# Altium footprint library PCB1.PcbLib: 103 footprints (part 4 of 7)
Each footprint in its own frame and in the unit in brackets; x right, y up, seen from the top. Pads: shape width x height; smd on the part's side, far side on the other; paste and mask are expansions set on the pad; w line width, h text height; cw(c..) or ccw(c..) is an arc to the next point about the centre after c.
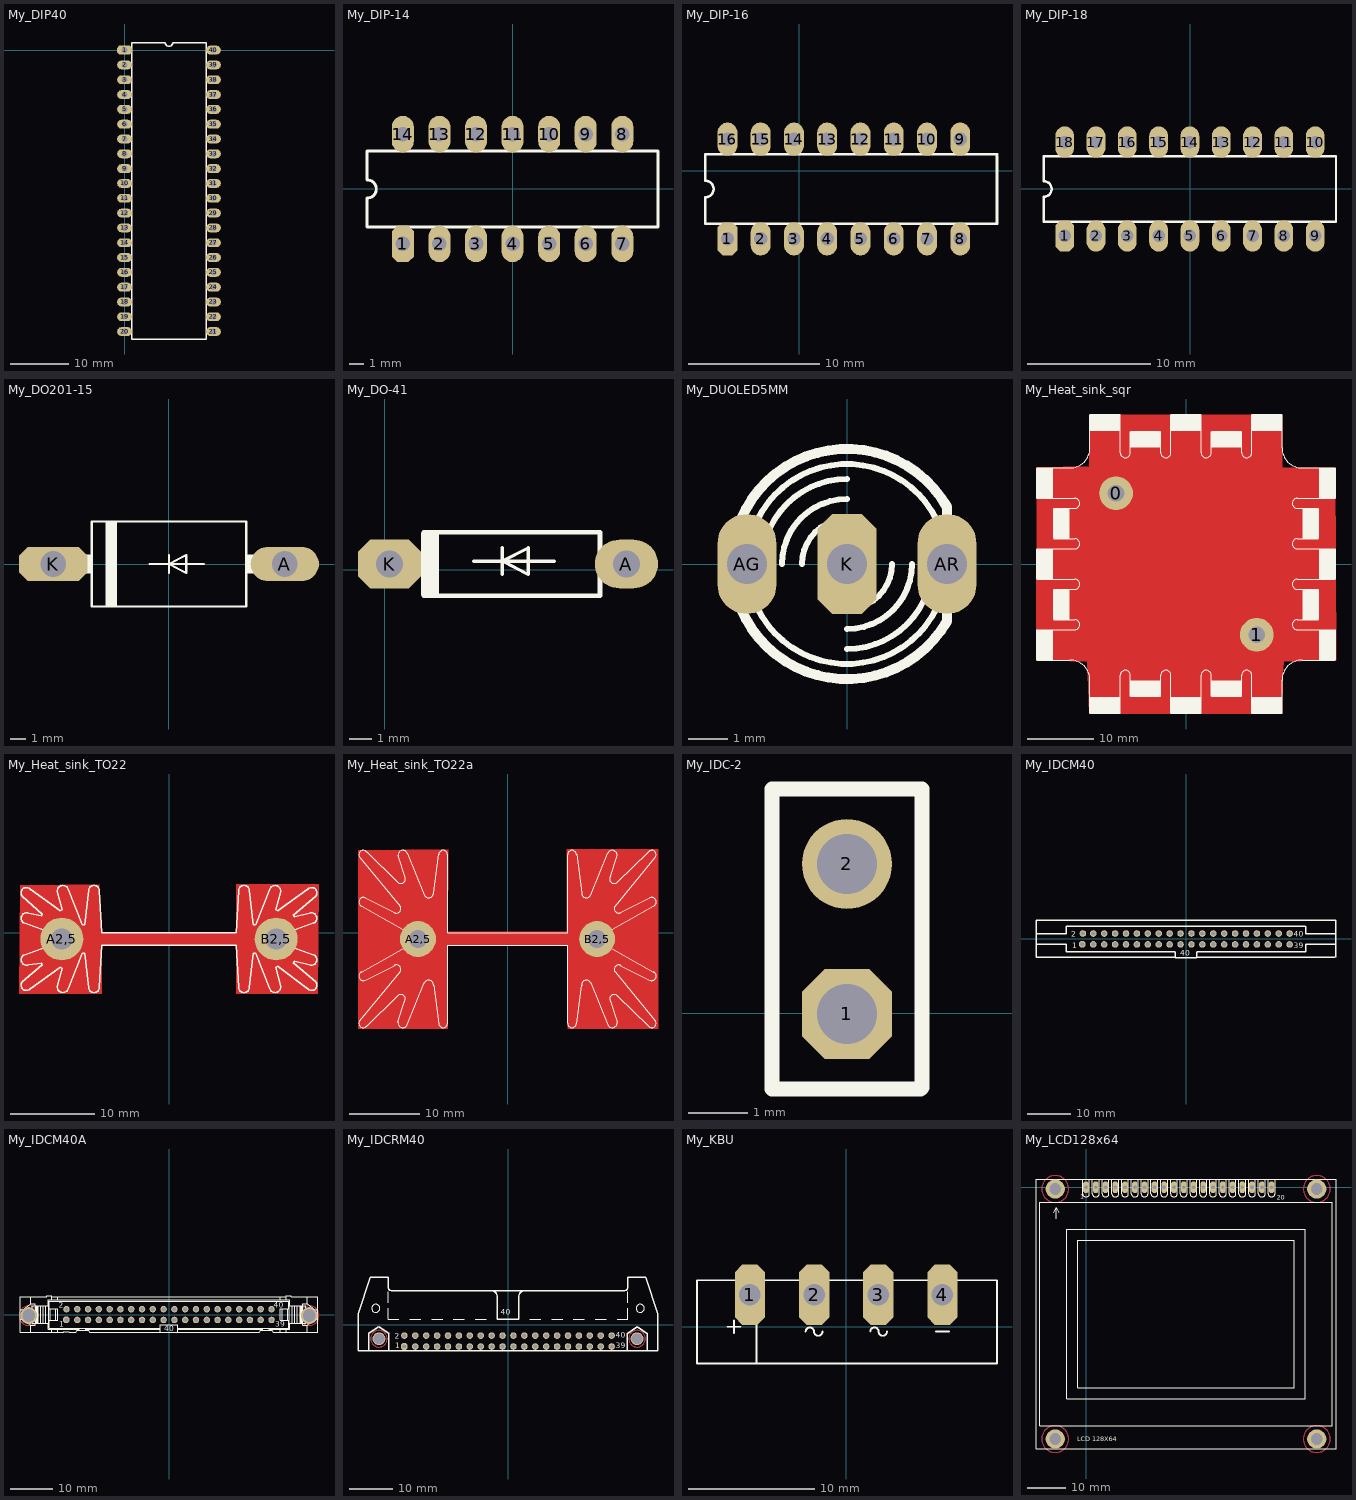
[diagram p3: the footprints below, top view; thin cyan lines are the x and y axes]

## My_DIP40 [mil]
pads (40):
  oct 100x60 hole 40: 1(-0.5,-0.5)
  oval 100x60 hole 40: 2(-0.5,-100.5) 3(-0.5,-200.5) 4(-0.5,-300.5) 5(-0.5,-400.5) 6(-0.5,-500.5) 7(-0.5,-600.5) 8(-0.5,-700.5) 9(-0.5,-800.5) 10(-0.5,-900.5) 11(-0.5,-1000.5) 12(-0.5,-1100.5) 13(-0.5,-1200.5) 14(-0.5,-1300.5) 15(-0.5,-1400.5) 16(-0.5,-1500.5) 17(-0.5,-1600.5) 18(-0.5,-1700.5) 19(-0.5,-1800.5) 20(-0.5,-1900.5) 21(599.5,-1900.5) 22(599.5,-1800.5) 23(599.5,-1700.5) 24(599.5,-1600.5) 25(599.5,-1500.5) 26(599.5,-1400.5) 27(599.5,-1300.5) 28(599.5,-1200.5) 29(599.5,-1100.5) 30(599.5,-1000.5) 31(599.5,-900.5) 32(599.5,-800.5) 33(599.5,-700.5) 34(599.5,-600.5) 35(599.5,-500.5) 36(599.5,-400.5) 37(599.5,-300.5) 38(599.5,-200.5) 39(599.5,-100.5) 40(599.5,-0.5)
Top Overlay:
  lines w10: 49.5,-1950.5 549.5,-1950.5 549.5,49.5 324.5,49.5 cw(c299.5,49.5) 274.5,49.5 49.5,49.5 49.5,-1950.5

## My_DIP-14 [mil]
pads (14):
  oct 60x100 hole 40: 1(-300.5,-150.5)
  oval 60x100 hole 40: 2(-200.5,-150.5) 3(-100.5,-150.5) 4(-0.5,-150.5) 5(99.5,-150.5) 6(199.5,-150.5) 7(299.5,-150.5) 8(299.5,149.5) 9(199.5,149.5) 10(99.5,149.5) 11(-0.5,149.5) 12(-100.5,149.5) 13(-200.5,149.5) 14(-300.5,149.5)
Top Overlay:
  lines w7.87: -398.14,-104.83 397.14,-104.83 397.14,103.83 -398.14,103.83 -398.14,24.5 cw(c-398.14,-0.5) -398.14,-25.5 -398.14,-104.83

## My_DIP-16 [mil]
height 20
pads (16):
  oct 60x100 hole 40: 1(-215.5,-205.5)
  oval 60x100 hole 40: 2(-115.5,-205.5) 3(-15.5,-205.5) 4(84.5,-205.5) 5(184.5,-205.5) 6(284.5,-205.5) 7(384.5,-205.5) 8(484.5,-205.5) 9(484.5,94.5) 10(384.5,94.5) 11(284.5,94.5) 12(184.5,94.5) 13(84.5,94.5) 14(-15.5,94.5) 15(-115.5,94.5) 16(-215.5,94.5)
Top Overlay:
  lines w7.87: -282.04,-160 595,-160 595,43.83 ; -282.04,-159.83 -282.04,-80.5 ccw(c-282.04,-55.5) -282.04,-30.5 -282.04,48.83 595,48.83

## My_DIP-18 [mil]
pads (18):
  oct 60x100 hole 40: 1(-400.5,-150.5)
  oval 60x100 hole 40: 2(-300.5,-150.5) 3(-200.5,-150.5) 4(-100.5,-150.5) 5(-0.5,-150.5) 6(99.5,-150.5) 7(199.5,-150.5) 8(299.5,-150.5) 9(399.5,-150.5) 10(399.5,149.5) 11(299.5,149.5) 12(199.5,149.5) 13(99.5,149.5) 14(-0.5,149.5) 15(-100.5,149.5) 16(-200.5,149.5) 17(-300.5,149.5) 18(-400.5,149.5)
Top Overlay:
  lines w7.87: -467.04,-104.83 466.04,-104.83 466.04,103.83 -467.04,103.83 -467.04,24.5 cw(c-467.04,-0.5) -467.04,-25.5 -467.04,-104.83

## My_DO201-15 [mm]
pads (2):
  oval 4.496x2.248 hole 1.7: A(7.625,0.004)
  oct 4.496x2.248 hole 1.7: K(-7.615,0.004)
Top Overlay:
  rectangle: -4.186,-2.79 -3.424,2.798
  rectangle: -5.964,-0.631 -5.075,0.639
  rectangle: 5.085,-0.631 5.974,0.639
  lines w0.152: -1.265,0.004 0.005,0.004 ; 0.005,-0.58 0.005,0.004 ; 0.005,0.588 0.005,0.004 ; 2.291,0.004 0.005,0.004 ; 0.005,0.004 1.148,0.588 1.148,-0.58 0.005,0.004 ; -5.075,-2.79 -5.075,2.798 5.085,2.798 5.085,-2.79 -5.075,-2.79
  lines w1.27: -7.615,0.004 -6.218,0.004 ; 6.228,0.004 7.625,0.004

## My_DO-41 [mil]
pads (2):
  oval 110x85 hole 47.24: A(420.71,10)
  oct 110x85 hole 47.24: K(8.9,10)
Top Overlay:
  region: 95,65.12 63.5,65.12 63.5,-45.12 95,-45.12
  lines w6: 155,15 205,15 ; 205,-8 205,15 ; 205,38 205,15 ; 295,15 205,15 ; 205,15 250,-8 250,38 205,15
  lines w7.87: 68.31,-45.12 374.8,-45.12 374.8,65.12 68.31,65.12

## My_DUOLED5MM [mil]
pads (3):
  oval 59x100 hole 40: AG(-100,0) AR(100,0)
  oct 59x100 hole 40: K(0,0)
Top Overlay:
  lines w6: -85,0 cw(c0,0) 0,85 ; -65,0 cw(c0,0) 0,65 ; -45,0 cw(c0,0) 0,45 ; 0,-85 ccw(c0,0) 85,0 ; 0,-65 ccw(c0,0) 65,0 ; 0,-45 ccw(c0,0) 45,0 ; -94,-34 cw(c0,0) -94,34 cw(c0,0) 94,34 cw(c0,0) 94,-34 cw(c0,0) -94,-34
  lines w10: -110,34 ccw(c0,0) -110,-34 ccw(c0,0) 100.03,-57.01 ; -109.97,33.99 cw(c0,0) 100,57 100,35 ; 100,-57 100,-35 100,37

## My_Heat_sink_sqr [mil]
pads (2):
  round 200 hole 100: 0(-415,420) 1(420,-420)
Top Layer:
  region: 885,570 570,575 570,885 -570,885 -575,580 -885,575 -890,-570 -585,-580 -575,-890 570,-890 575,-655 580,-580 890,-570
Top Overlay:
  circle w6: c-420,420 r85
  circle w6: c420,-420 r85
  rectangle: -330,690 -150,790
  rectangle: -570,790 -390,890
  rectangle: -790,150 -690,330
  rectangle: -890,390 -790,570
  rectangle: 150,-790 330,-690
  rectangle: 390,-890 570,-790
  rectangle: 690,-330 790,-150
  rectangle: 790,-570 890,-390
  rectangle: -790,-330 -690,-150
  rectangle: -890,-570 -790,-390
  rectangle: -890,-90 -790,90
  rectangle: -330,-790 -150,-690
  rectangle: -90,-890 90,-790
  rectangle: -570,-890 -390,-790
  rectangle: 690,150 790,330
  rectangle: 790,390 890,570
  rectangle: 790,-90 890,90
  rectangle: 150,690 330,790
  rectangle: -90,790 90,890
  rectangle: 390,790 570,890
  lines w6: -885,-570 -690,-570 cw(c-690,-690) -570,-690 -570,-885 ; -885,-390 -660,-390 ccw(c-660,-360) -660,-330 -785,-330 ; -885,-90 -660,-90 cw(c-660,-120) -660,-150 -785,-150 ; -885,90 -660,90 ccw(c-660,120) -660,150 -785,150 ; -885,390 -660,390 cw(c-660,360) -660,330 -785,330 ; -885,570 -690,570 ccw(c-690,690) -570,690 -570,885 ; -390,-885 -390,-660 cw(c-360,-660) -330,-660 -330,-785 ; -390,885 -390,660 ccw(c-360,660) -330,660 -330,785 ; -150,-785 -150,-660 cw(c-120,-660) -90,-660 -90,-885 ; -150,785 -150,660 ccw(c-120,660) -90,660 -90,885 ; 90,-885 90,-660 cw(c120,-660) 150,-660 150,-785 ; 90,885 90,660 ccw(c120,660) 150,660 150,785 ; 330,-785 330,-660 cw(c360,-660) 390,-660 390,-885 ; 330,785 330,660 ccw(c360,660) 390,660 390,885 ; 570,-885 570,-690 cw(c690,-690) 690,-570 885,-570 ; 570,885 570,690 ccw(c690,690) 690,570 885,570 ; 785,-330 660,-330 ccw(c660,-360) 660,-390 885,-390 ; 785,-150 660,-150 cw(c660,-120) 660,-90 885,-90 ; 785,150 660,150 ccw(c660,120) 660,90 885,90 ; 785,330 660,330 cw(c660,360) 660,390 885,390

## My_Heat_sink_TO22 [mil]
pads (2):
  round 200 hole 100: A2,5(-500,-30) B2,5(500,-30)
Top Layer:
  region: 700,225 315,225 315,0 -315,0 -325,225 -695,220 -700,-285 -315,-285 -315,-60 315,-60 315,-285 695,-285
Top Overlay:
  lines w6: -677,-105 -595,-75 -535,-55 ccw(c-500,-30) -535,-5 -595,15 -677,45 ; -675.38,-104.16 ccw(c-665,-126.99) -655,-149.99 -596,-143 -591,-150 -685,-230 ccw(c-665,-245) -645,-260 ; -675.38,44.17 cw(c-665,67) -655,90 -596,78 -591,85 -685,170 cw(c-665,185) -645,200 ; -649,-264 -507,-162 -499,-166 -522,-250 ; -649,204 -507,102 -499,106 -522,190 ; -521.56,-248.57 ccw(c-495,-253) -470,-263 -404,-97 -393,-97 -375,-257 ; -521.56,188.57 cw(c-495,193) -470,203 -404,37 -393,37 -375,197 ; -375,-255 ccw(c-350,-255) -325,-255 -315,-60 315,-60 325,-255 ccw(c350,-255) 375,-255 ; -375,195 cw(c-350,195) -325,195 -315,0 315,0 325,195 cw(c350,195) 375,195 ; 375,-256 393,-97 404,-97 470,-263 ccw(c494.99,-253) 521.55,-248.57 ; 375,198 393,37 404,37 470,203 cw(c494.99,193) 521.55,188.57 ; 522,-250 499,-161 507,-157 649,-264 ; 522,190 499,106 507,102 649,204 ; 535,-55 595,-75 677,-105 ; 535.78,-53.85 cw(c500,-29.99) 535,-4.99 595,15 676,45 ; 645,-260 ccw(c665,-245) 685,-230 581,-140 586,-133 655,-150 ccw(c665,-126.99) 675.38,-104.16 ; 645,200 cw(c665,185) 685,170 581,80 586,73 655,90 cw(c665,67) 675.38,44.17
Mechanical 2:
  text "2,5" at 450,-150 h50
  text "2,5" at -575,-150 h50

## My_Heat_sink_TO22a [mil]
pads (2):
  round 200 hole 100: A2,5(-500,-35) B2,5(500,-35)
Top Layer:
  region: 840,465 330,465 330,5 -335,5 -330,465 -835,460 -835,-535 -335,-535 -335,-75 335,-70 335,-535 840,-535
Top Overlay:
  lines w6: -825,-491 -600,-218 ; -825,-490 ccw(c-805,-505) -785,-520 ; -825,420 cw(c-805,435) -785,450 ; -825,421 -600,148 ; -816,-220 -585,-90 -540,-65 ccw(c-500,-35) -540,-5 -585,20 -816,150 ; -815.38,-219.16 ccw(c-805,-241.99) -795,-264.99 -633,-183 ; -815.38,149.17 cw(c-805,172) -795,195 -633,113 ; -787,-522 -612,-352 ; -787,452 -612,282 ; -635.22,-184.15 cw(c-621.01,-205) -600.01,-219 ; -635.22,114.15 ccw(c-621,135) -600,149 ; -615,-355 cw(c-595,-370) -575,-385 ; -615,285 ccw(c-595,300) -575,315 ; -612,-500 -573,-381 ; -612,430 -573,311 ; -611.56,-498.57 ccw(c-585,-503) -560,-513 -464,-280 ; -611.56,428.57 cw(c-585,433) -560,443 -464,210 ; -465,-282 cw(c-440,-292) -413.44,-296.43 ; -465,212 ccw(c-440,222) -413.44,226.43 ; -413,-294 -385,-507 ; -413,224 -385,437 ; -385,-505 ccw(c-360,-505) -335,-505 -335,-70 335,-70 335,-505 ccw(c360,-505) 385,-505 ; -385,435 cw(c-360,435) -335,435 -335,0 -300,0 335,0 335,435 cw(c360,435) 385,435 ; 385,-507 413,-294 ; 385,437 413,224 ; 413.44,-296.43 cw(c440,-292) 465,-282 ; 413.44,226.43 ccw(c440,222) 465,212 ; 464,-280 560,-513 ccw(c584.99,-503) 611.55,-498.57 ; 464,210 560,443 cw(c584.99,433) 611.55,428.57 ; 573,-381 612,-500 ; 573,311 612,430 ; 575,-385 cw(c595,-370) 615,-355 ; 575,315 ccw(c595,300) 615,285 ; 599.99,-219 cw(c620.99,-205) 635.21,-184.15 ; 600,-218 825,-491 ; 600,148 825,421 ; 599.99,149 ccw(c621,135) 635.22,114.14 ; 612,-352 787,-522 ; 612,282 787,452 ; 633,-183 795,-265 ccw(c805,-241.99) 815.38,-219.16 ; 633,113 795,195 cw(c805,172) 815.38,149.17 ; 785,-520 ccw(c805,-505) 825,-490 ; 785,450 cw(c805,435) 825,420 ; 816,-220 585,-90 540,-65 cw(c500,-35) 540,-5 585,20 816,150
Mechanical 2:
  text "2,5" at 450,-150 h50
  text "2,5" at -550,-150 h50

## My_IDC-2 [mil]
pads (2):
  oct 60x60 hole 40: 1(259.5,-0.5)
  round 60 hole 40: 2(259.5,99.5)
Top Overlay:
  lines w10: 209.5,-50.5 209.5,149.5 309.5,149.5 309.5,49.5 309.5,-49.5 308.5,-50.5 209.5,-50.5

## My_IDCM40 [mil]
pads (40):
  oct 60x60 hole 40: 1(-950,-50)
  round 60 hole 40: 2(-945,50) 3(-850,-50) 4(-850,50) 5(-750,-50) 6(-750,50) 7(-650,-50) 8(-650,50) 9(-550,-50) 10(-550,50) 11(-450,-50) 12(-450,50) 13(-350,-50) 14(-350,50) 15(-250,-50) 16(-250,50) 17(-150,-50) 18(-150,50) 19(-50,-50) 20(-50,50) 21(50,-50) 22(50,50) 23(150,-50) 24(150,50) 25(250,-50) 26(250,50) 27(350,-50) 28(350,50) 29(450,-50) 30(450,50) 31(550,-50) 32(550,50) 33(650,-50) 34(650,50) 35(750,-50) 36(750,50) 37(850,-50) 38(850,50) 39(950,-50) 40(950,50)
Top Overlay:
  lines w12: -1375,-169.29 -100,-169.29 -100,-120 ; -1375,-167 -1375,169.3 1375,169.3 1375,-167 ; -1370,-50 -1100,-50 -1100,-118.11 -100,-118.11 ; -1370,50 -1100,50 -1100,118.11 1095,118.11 ; -100,-170 100,-170 ; 100,-120 100,-169.29 1365,-169.29 ; 100,-118.11 1100,-118.11 1100,-50 1370,-50 ; 1100,118.11 1100,50 1370,50
  text "40" at -55,-155 h50
  text "1" at -1045,-85 h50
  text "2" at -1050,20 h50
  text "39" at 990,-85 h50
  text "40" at 990,20 h50

## My_IDCM40A [mil]
pads (42):
  oct 60x60 hole 40: 1(-950,-50)
  round 60 hole 40: 2(-950,50) 3(-850,-50) 4(-850,50) 5(-750,-50) 6(-750,50) 7(-650,-50) 8(-650,50) 9(-550,-50) 10(-550,50) 11(-450,-50) 12(-450,50) 13(-350,-50) 14(-350,50) 15(-250,-50) 16(-250,50) 17(-150,-50) 18(-150,50) 19(-50,-50) 20(-50,50) 21(50,-50) 22(50,50) 23(150,-50) 24(150,50) 25(250,-50) 26(250,50) 27(350,-50) 28(350,50) 29(450,-50) 30(450,50) 31(550,-50) 32(550,50) 33(650,-50) 34(650,50) 35(750,-50) 36(750,50) 37(850,-50) 38(850,50) 39(950,-50) 40(950,50)
  round 157.48 hole 118.11 unplated: ""(-1300,-10) ""(1300,-10)
Top Layer:
  circle w10: c-1300,-10 r90
  circle w10: c1300,-10 r90
Bottom Layer:
  circle w10: c-1300,-10 r90
  circle w10: c1300,-10 r90
Top Overlay:
  drawing of 227 lines, arcs and shapes, not listed
  text "40" at -45,-155 h50
  text "2" at -1020,65 h50
  text "1" at -1015,-115 h50
  text "40" at 970,65 h50
  text "39" at 985,-115 h50

## My_IDCRM40 [mil]
pads (42):
  oct 60x60 hole 40: 1(-950,-200)
  round 60 hole 40: 2(-950,-100) 3(-850,-200) 4(-850,-100) 5(-750,-200) 6(-750,-100) 7(-650,-200) 8(-650,-100) 9(-550,-200) 10(-550,-100) 11(-450,-200) 12(-450,-100) 13(-350,-200) 14(-350,-100) 15(-250,-200) 16(-250,-100) 17(-150,-200) 18(-150,-100) 19(-50,-200) 20(-50,-100) 21(50,-200) 22(50,-100) 23(150,-200) 24(150,-100) 25(250,-200) 26(250,-100) 27(350,-200) 28(350,-100) 29(450,-200) 30(450,-100) 31(550,-200) 32(550,-100) 33(650,-200) 34(650,-100) 35(750,-200) 36(750,-100) 37(850,-200) 38(850,-100) 39(950,-200) 40(950,-100)
  round 118.11 hole 98.43 unplated: ""(-1182.99,-129.02) ""(1182.99,-129.02)
Top Layer:
  circle w10: c1183,-129 r76
  circle w10: c-1183,-129 r76
Bottom Layer:
  circle w10: c-1183,-129 r76
  circle w10: c1183,-129 r76
Top Overlay:
  circle w6: c-1212,150 r37
  circle w6: c1212,150 r37
  lines w6: -1100,150 -1100,50 -1000,50 ; -1100,200 -1100,300 ; -900,50 -800,50 ; -700,50 -600,50 ; -500,50 -400,50 ; -300,50 -200,50 ; 0,50 100,50 ; 200,50 300,50 ; 400,50 500,50 ; 600,50 700,50 ; 800,50 900,50 ; 1000,50 1100,50 1100,150 ; 1100,200 1100,300
  lines w12: -150,310 cw(c-150,260) -100,260 ; -100,263 -100,50 100,50 100,263 ; 100,260 cw(c150,260) 150,310 ; -1275,-237 -1375,-237 -1375,100 -1262,433 -1100,433 -1100,350 ccw(c-1060,350) -1060,310 1060,310 ccw(c1060,350) 1100,350 1100,433 1262,433 1375,100 1375,-237 1275,-237 ; -1275,-237 -1275,-80 -1183,-18 -1091,-80 -1091,-237 ; -1275,-237 -1091,-237 ; -1091,-237 1091,-237 ; 1091,-237 1091,-81 1183,-18 1275,-81 1275,-237 ; 1091,-237 1275,-237
  text "2" at -1040,-130 h50
  text "1" at -1035,-215 h50
  text "40" at -65,90 h50
  text "39" at 990,-215 h50
  text "40" at 990,-120 h50

## My_KBU [mm]
pads (4):
  oct 2.4x4.801 hole 1.7: 1(-7.615,2.544) 2(-2.535,2.544) 3(2.545,2.544) 4(7.625,2.544)
Top Overlay:
  lines w0.152: -9.393,0.004 -8.377,0.004 ; -8.885,-0.504 -8.885,-0.25 -8.885,-0.123 -8.885,0.131 -8.885,0.258 -8.885,0.512 ; -3.2,-0.381 cw(c-2.87,-0.381) -2.54,-0.381 ccw(c-2.21,-0.381) -1.88,-0.381 ; 1.91,-0.377 cw(c2.24,-0.377) 2.57,-0.377 ccw(c2.901,-0.377) 3.231,-0.377 ; 7.112,-0.381 8.128,-0.381 ; -7.107,-2.917 -7.107,0.766 -7.107,3.687 ; -7.107,-2.917 11.943,-2.917 11.943,3.687 8.895,3.687 6.355,3.687 3.815,3.687 1.275,3.687 -1.265,3.687 -3.805,3.687 -6.345,3.687 -7.107,3.687 ; -7.107,-2.917 -11.806,-2.917 -11.806,3.687 -8.885,3.687 -7.107,3.687

## My_LCD128x64 [mm]
pads (24):
  oct 1.508x3.016 hole 1: 1(0,0) 2(2.54,0) 3(5.08,0) 4(7.62,0) 5(10.16,0) 6(12.7,0) 7(15.24,0) 8(17.78,0) 9(20.32,0) 10(22.86,0) 11(25.4,0) 12(27.94,0) 13(30.48,0) 14(33.02,0) 15(35.56,0) 16(38.1,0) 17(40.64,0) 18(43.18,0) 19(45.72,0) 20(48.26,0)
  round 5 hole 3 unplated: ""(-8,-65.46) ""(-8,-0.46) ""(60,-65.46) ""(60,-0.46)
Top Layer:
  circle w0.203: c60,-65.46 r3.502
  circle w0.203: c-8,-65.46 r3.5
  circle w0.203: c60,-0.46 r3.5
  circle w0.203: c-8,-0.46 r3.502
Bottom Layer:
  circle w0.203: c-8,-65.46 r3.505
  circle w0.203: c60,-65.46 r3.502
  circle w0.203: c60,-0.46 r3.502
  circle w0.203: c-8,-0.46 r3.501
Top Overlay:
  lines w0.127: -8.382,-6.604 -7.747,-5.334 -7.112,-6.604 ; -7.747,-8.146 -7.747,-5.461 ; -0.889,1.905 -0.889,-1.651 ccw(c0,-1.651) 0.889,-1.651 0.889,1.905 ; 1.651,1.905 1.651,-1.651 ccw(c2.54,-1.651) 3.429,-1.651 3.429,1.905 ; 4.191,1.905 4.191,-1.651 ccw(c5.08,-1.651) 5.969,-1.651 5.969,1.905 ; 6.731,1.905 6.731,-1.651 ccw(c7.62,-1.651) 8.509,-1.651 8.509,1.905 ; 9.271,1.905 9.271,-1.651 ccw(c10.16,-1.651) 11.049,-1.651 11.049,1.905 ; 11.811,1.905 11.811,-1.651 ccw(c12.7,-1.651) 13.589,-1.651 13.589,1.905 ; 14.351,1.905 14.351,-1.651 ccw(c15.24,-1.651) 16.129,-1.651 16.129,1.905 ; 16.891,1.905 16.891,-1.651 ccw(c17.78,-1.651) 18.669,-1.651 18.669,1.905 ; 19.431,1.905 19.431,-1.651 ccw(c20.32,-1.651) 21.209,-1.651 21.209,1.905 ; 21.971,1.905 21.971,-1.651 ccw(c22.86,-1.651) 23.749,-1.651 23.749,1.905 ; 24.511,1.905 24.511,-1.651 ccw(c25.4,-1.651) 26.289,-1.651 26.289,1.905 ; 27.051,1.905 27.051,-1.651 ccw(c27.94,-1.651) 28.829,-1.651 28.829,1.905 ; 29.591,1.905 29.591,-1.651 ccw(c30.48,-1.651) 31.369,-1.651 31.369,1.905 ; 32.131,1.905 32.131,-1.651 ccw(c33.02,-1.651) 33.909,-1.651 33.909,1.905 ; 34.671,1.905 34.671,-1.651 ccw(c35.56,-1.651) 36.449,-1.651 36.449,1.905 ; 37.211,1.905 37.211,-1.651 ccw(c38.1,-1.651) 38.989,-1.651 38.989,1.905 ; 39.751,1.905 39.751,-1.651 ccw(c40.64,-1.651) 41.529,-1.651 41.529,1.905 ; 42.291,1.905 42.291,-1.651 ccw(c43.18,-1.651) 44.069,-1.651 44.069,1.905 ; 44.831,1.905 44.831,-1.651 ccw(c45.72,-1.651) 46.609,-1.651 46.609,1.905 ; 47.371,1.905 47.371,-1.651 ccw(c48.26,-1.651) 49.149,-1.651 49.149,1.905
  lines w0.203: -13,-67.96 65,-67.96 65,2.04 -13,2.04 -13,-67.96 ; -12,-61.96 64,-61.96 64,-3.96 -12,-3.96 -12,-61.96 ; -5,-54.96 57,-54.96 57,-10.96 -5,-10.96 -5,-54.96 ; -2.13,-52.14 54.14,-52.14 54.14,-13.79 -2.13,-13.79 -2.13,-52.14
  text "LCD 128X64" at -2.286,-66.04 h1.27
  text "1" at -1.524,-3.048 h1.27
  text "20" at 49.53,-3.302 h1.27